# EAGLE library part RV-3028-C7 (library microcrystal)
IC RTC CLK/CALENDAR I2C 8-SMT
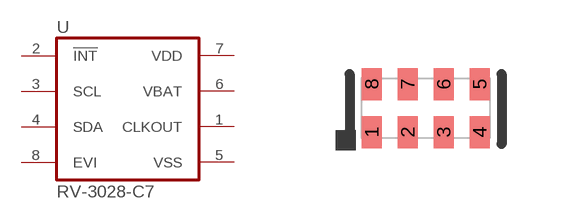
[diagram p0: symbol with the pads of 8-WCDFN; footprint 8-WCDFN]

Designator prefix U

## RV-3028-C7  [8-WCDFN]
1  CLKOUT  out
2  !INT!
3  SCL  in
4  SDA
5  VSS  pwr
6  VBAT  in
7  VDD  pwr
8  EVI

## Footprint 8-WCDFN (pad centres in mm)
8-WCDFN
smd 0.5 x 0.8: 1 -1.35,-0.6; 2 -0.45,-0.6; 3 0.45,-0.6; 4 1.35,-0.6; 5 1.35,0.6; 6 0.45,0.6; 7 -0.45,0.6; 8 -1.35,0.6